# EAGLE library part MCP2515T-E/SO (library MCP2515-I_P)
Stand-Alone CAN Controller Check prices <https://pricing.snapeda.com/parts/MCP2515T-E/SO/Microchip/view-part?ref=eda>
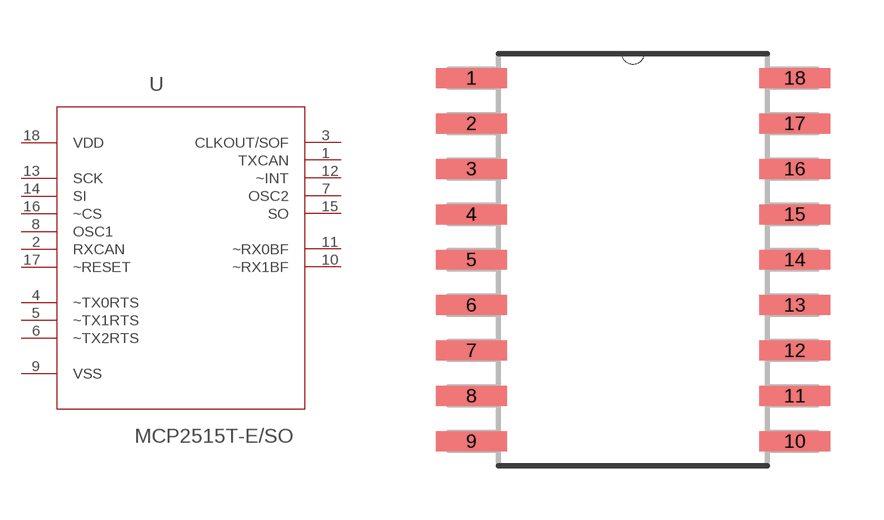
[diagram p0: symbol with the pads of SOIC127P1030X265-18N; footprint SOIC127P1030X265-18N]

Designator prefix -

## MCP2515T-E/SO (Availability: No availability data; Description: CANbus Controller CAN 2.0 SPI Interface 18-SOIC; MF: Microchip; MP: MCP2515T-E/SO; Package: SOIC-18 Microchip; Price: None)  [SOIC127P1030X265-18N]
1  TXCAN  out
2  RXCAN  in
3  CLKOUT/SOF  out
4  ~TX0RTS  in
5  ~TX1RTS  in
6  ~TX2RTS  in
7  OSC2  out
8  OSC1  in
9  VSS  pwr
10  ~RX1BF  out
11  ~RX0BF  out
12  ~INT  out
13  SCK  in
14  SI  in
15  SO  out
16  ~CS  in
17  ~RESET  in
18  VDD  pwr

## Footprint SOIC127P1030X265-18N (pad centres in mm)
smd 1.981 x 0.559: 1 -4.521,5.08; 2 -4.521,3.81; 3 -4.521,2.54; 4 -4.521,1.27; 5 -4.521,0; 6 -4.521,-1.27; 7 -4.521,-2.54; 8 -4.521,-3.81; 9 -4.521,-5.08; 10 4.521,-5.08; 11 4.521,-3.81; 12 4.521,-2.54; 13 4.521,-1.27; 14 4.521,0; 15 4.521,1.27; 16 4.521,2.54; 17 4.521,3.81; 18 4.521,5.08